# Altium schematic symbol library AIRs_signal_draw.SchLib: 4 symbols
Pins are listed as number, name and electrical type; pins without a type are passive.

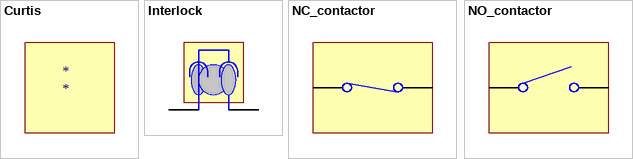
[diagram p0: symbols Curtis to NO_contactor]

## Curtis
designator *

## Interlock
designator *  (value not drawn)
pins: 3, 4

## NC_contactor
designator S?  (value not drawn)
pins: 1, 2

## NO_contactor
designator S?  (value not drawn)
pins: 1, 2